# Altium footprint library Cuon Cam.PcbLib: 25 footprints (part 2 of 2)
Each footprint in its own frame and in the unit in brackets; x right, y up, seen from the top. Pads: shape width x height; smd on the part's side, far side on the other; paste and mask are expansions set on the pad; w line width, h text height; cw(c..) or ccw(c..) is an arc to the next point about the centre after c.
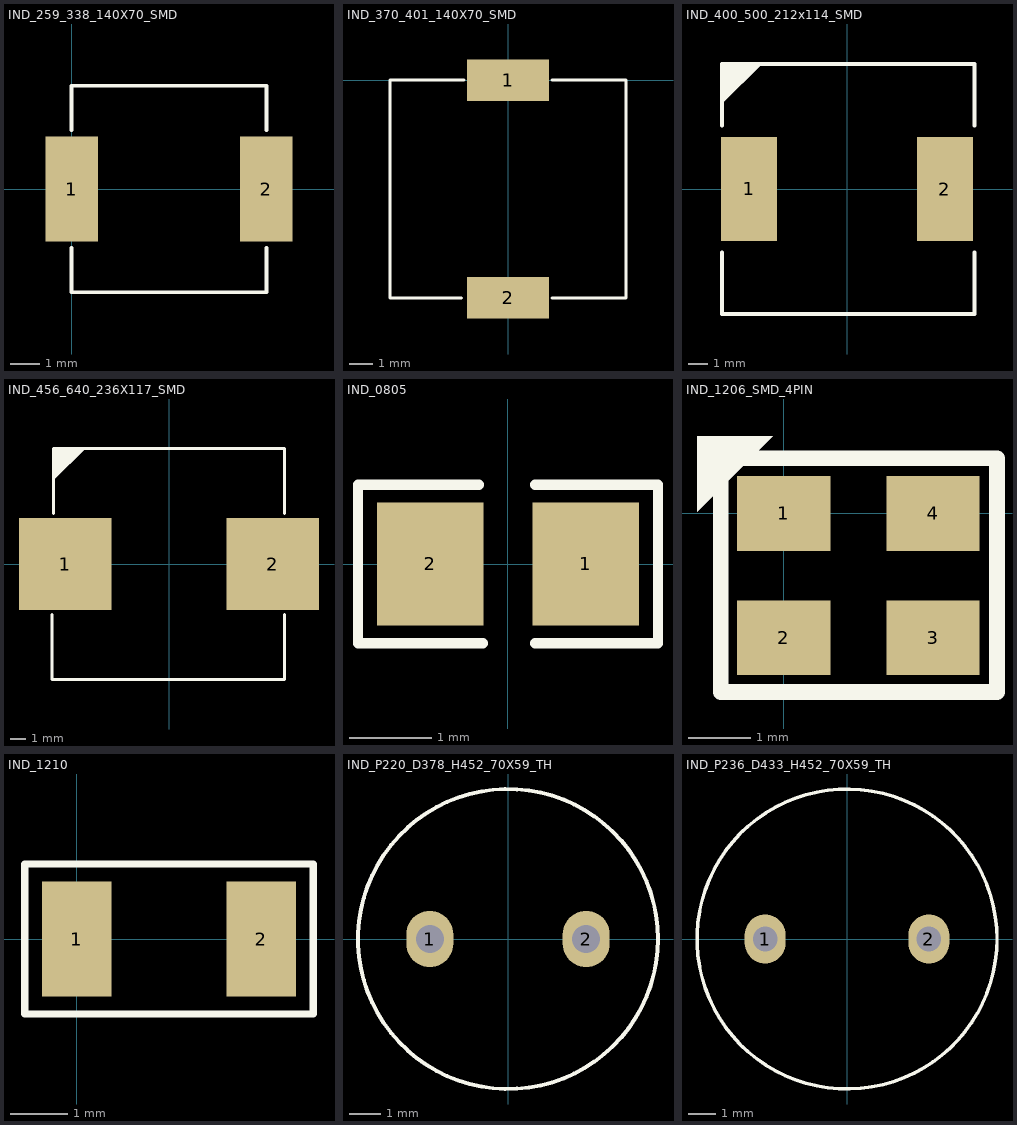
[diagram p1: the footprints below, top view; thin cyan lines are the x and y axes]

## IND_259_338_140X70_SMD [mm] "Inductor"
height 2.8
pads (2):
  rect 1.78x3.56 smd: 1(0,0) 2(6.6,0)
Top Overlay:
  lines w0.127: 0,-2 0,-3.5 6.6,-3.5 6.6,-2 ; 0,2 0,3.5 6.6,3.5 6.6,2

## IND_370_401_140X70_SMD [mm] "SMD INDUCTOR"
height 3.785
pads (2):
  rect 3.56x1.78 smd: 1(0,0) 2(0,-9.4)
Top Overlay:
  lines w0.127: -2,-9.4 -5.1,-9.4 -5.1,0 -1.9,0 ; 1.9,-9.4 5.1,-9.4 5.1,0 1.9,0
3D body "Triad Magnetics-AX104R-100.step": height 4.01, standoff 0.01, extent -5.2,-9.9 5.1,0.5

## IND_400_500_212x114_SMD [mm] "wurth inductor"
height 8
pads (2):
  rect 2.9x5.4 smd: 1(-5.08,0) 2(5.08,0)
Top Overlay:
  region: -6.477,6.477 -4.431,6.477 -6.47,4.438
  lines w0.2: -6.477,-3.3 -6.477,-6.477 6.604,-6.477 6.604,-3.3 ; -6.477,3.3 -6.477,6.477 6.604,6.477 6.604,3.3
3D body "Inductor  12mmX 12mm .step": height 8.1, standoff 0, extent -6.125,-6.025 6.125,6.025

## IND_456_640_236X117_SMD [mm] "SMD Inductor on Sunrom"
height 8.6
pads (2):
  rect 6x6 smd: 1(-6.75,0) 2(6.75,0)
Top Overlay:
  rectangle: -7.5,7.493 -5.08,7.5
  region: -7.5,7.5 -5.454,7.5 -7.493,5.461
  lines w0.2: -7.6,-3.3 -7.6,-7.5 7.5,-7.5 7.5,-3.3 ; -7.5,3.3 -7.5,7.5 7.5,7.5 7.5,3.3
3D body "Inductor  12mmX 12mm .step": height 8.1, standoff 0, extent -6.125,-6.125 6.125,5.925

## IND_0805 [mm] "Ferrite Bead"
height 0.65
pads (2):
  rect 1.3x1.5 smd mask+0.076: 1(0.95,0) 2(-0.95,0)
Top Overlay:
  lines w0.127: -0.356,0.965 -1.829,0.965 -1.829,-0.965 -0.305,-0.965 ; 0.33,-0.965 1.829,-0.965 1.829,0.965 0.33,0.965
3D body "RES0805.stp": height 0.5, standoff 0, extent -1,-0.63 1,0.62

## IND_1206_SMD_4PIN [mm] "CASE: SMD"
height 2
pads (4):
  rect 1.5x1.2 smd: 1(0,0) 2(0,-2) 3(2.4,-2) 4(2.4,0)
Top Overlay:
  region: -1.397,1.245 -0.182,1.245 -1.397,0.03
  lines w0.254: -1.016,-2.87 -1.016,0.889 3.429,0.889 3.429,-2.87 -1.016,-2.87
3D body "User Library-ACM3225.STEP": height 2.3, standoff 0, extent -0.406,-2.266 2.794,0.234

## IND_1210 [mm] "Inductor"
height 2.2
pads (2):
  rect 1.2x2 smd: 1(0,0) 2(3.2,0)
Top Overlay:
  lines w0.127: -0.9,-1.3 -0.9,1.3 4.1,1.3 4.1,-1.3 -0.9,-1.3
3D body "User Library-3225.STEP": height 1.99, standoff 0.1, extent 0,-1.25 3.2,1.25

## IND_P220_D378_H452_70X59_TH [mm] "Inductor"
height 11.5
pads (2):
  oval 1.5x1.8 hole 0.9: 1(-2.5,0) 2(2.5,0)
Top Overlay:
  circle w0.127: c0,0 r4.8
3D body "69417.stp": height 7.82, standoff -4.68, extent -3.9,-3.9 3.9,3.9

## IND_P236_D433_H452_70X59_TH [mm] "Inductor"
height 11.5
pads (2):
  oval 1.5x1.8 hole 0.9: 1(-3,0) 2(3,0)
Top Overlay:
  circle w0.127: c0,0 r5.5
3D body: height 11.75, standoff 0.25, extent -5.5,-5.5 5.5,5.5